# Altium schematic symbol library SCH - ADC - TI ADS1242.SCHLIB: 1 symbol
Pins are listed as number, name and electrical type; pins without a type are passive.

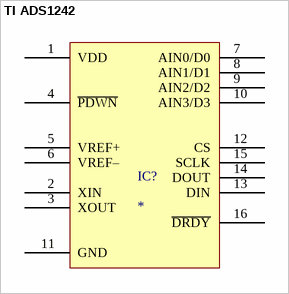
[diagram p0: symbol TI ADS1242]

## TI ADS1242
designator IC?
pins: 1 VDD, 2 XIN, 3 XOUT, 4 ~{PDWN}, 5 VREF+, 6 VREF–, 7 AIN0/D0, 8 AIN1/D1, 9 AIN2/D2, 10 AIN3/D3, 11 GND, 12 CS, 13 DIN, 14 DOUT, 15 SCLK, 16 ~{DRDY}